# Altium footprint library RetroPie-CM3.PcbLib: 18 footprints (part 1 of 2)
Each footprint in its own frame and in the unit in brackets; x right, y up, seen from the top. Pads: shape width x height; smd on the part's side, far side on the other; paste and mask are expansions set on the pad; w line width, h text height; cw(c..) or ccw(c..) is an arc to the next point about the centre after c.
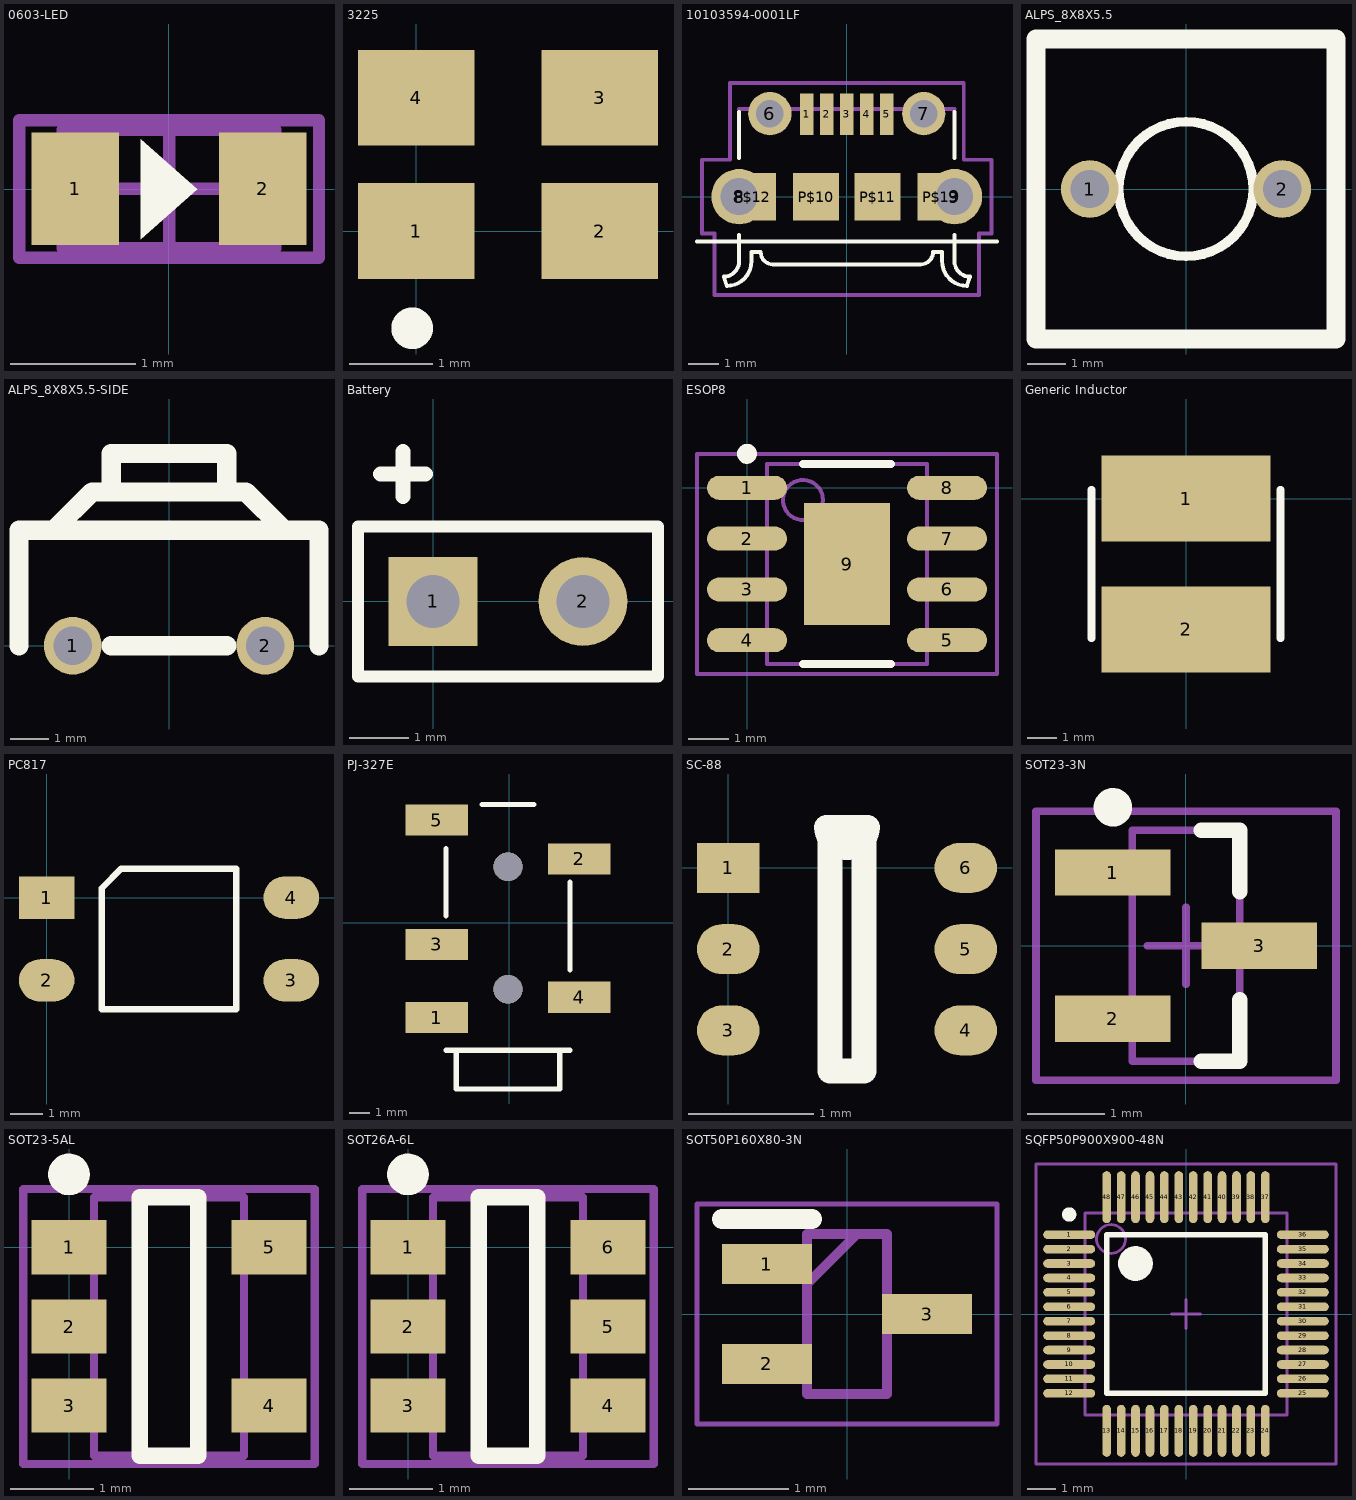
[diagram p0: the footprints below, top view; thin cyan lines are the x and y axes]

## 0603-LED [mm] "LED Body 1.6x0.8mm, IPC High Density"
height 0.9
pads (2):
  rect 0.7x0.9 smd: 1(-0.75,0) 2(0.75,0)
Top Overlay:
  region: -0.225,0.4 0.225,0 -0.225,-0.4
Mechanical 13:
  lines w0.1: -0.85,-0.475 -0.85,0.475 0.85,0.475 0.85,-0.475 -0.85,-0.475
Mechanical 15:
  lines w0.1: -0.475,0 0.475,0 ; 0,-0.475 0,0.475 ; -1.2,-0.55 -1.2,0.55 1.2,0.55 1.2,-0.55 -1.2,-0.55
3D body: height 0.9, standoff 0, extent -0.85,-0.475 0.85,0.475

## 3225 [mm] "Quartz Crystal, SM; Body 3.4 x 2.7 mm (LxW max)"
height 1
pads (4):
  rect 1.4x1.15 smd: 1(0,0) 2(2.2,0) 3(2.2,1.6) 4(0,1.6)
Top Overlay:
  circle w0.25: c-0.05,-1.167 r0.125

## 10103594-0001LF [mm] "Amphenol FCI Right Angle SMT Type B Version 2.0 Micro USB Connector Socket, 100 V ac, 1.8A"
pads (13):
  rect 0.45x1.35 smd: 1(-1.3,2.675) 2(-0.65,2.675) 3(0,2.675) 4(0.65,2.675) 5(1.3,2.675)
  round 1.408 hole 0.9: 6(-2.5,2.7) 7(2.5,2.7)
  round 1.8 hole 1.2: 8(-3.5,0) 9(3.5,0)
  rect 1.5x1.55 smd: P$10(-1,0) P$11(1,0) P$12(-3.05,0) P$13(3.05,0)
Top Overlay:
  lines w0.127: -4.869,-1.45 4.881,-1.45 ; -3.5,-2.15 -3.5,-2.1 ; -3.5,-1.25 -3.5,-2.1 ; -3.5,1.25 -3.5,2.75 ; 2.2,-2.2 2.4,-2.2 ccw(c2.4,-1.8) 2.8,-1.8 3.1,-1.8 3.1,-2.1 ccw(c3.9,-2.1) 3.9,-2.9 4,-2.6 cw(c4,-2.1) 3.5,-2.1 ; 2.3,-2.2 -2.4,-2.2 cw(c-2.4,-1.8) -2.8,-1.8 -3.1,-1.8 -3.1,-2.1 cw(c-3.9,-2.1) -3.9,-2.9 -4,-2.6 ccw(c-4,-2.1) -3.5,-2.1 ; 3.5,1.25 3.5,2.75 ; 3.5,-2.1 3.5,-1.25 3.5,-2.15 3.5,-2.1
Mechanical 1:
  lines w0.127: -3.5,2.85 3.5,2.85 ; -2.5,3.7 3.8,3.7 3.8,1.2 4.7,1.2 4.7,-1.2 4.3,-1.2 4.3,-3.2 -4.3,-3.2 -4.3,-1.2 -4.7,-1.2 -4.7,1.2 -3.8,1.2 -3.8,3.7 -1.8,3.7

## ALPS_8X8X5.5 [mm]
pads (2):
  round 1.5 hole 1: 1(-2.5,0) 2(2.5,0)
Top Overlay:
  circle w0.254: c0,0 r1.75
  lines w0.5: -3.9,-3.9 3.9,-3.9 3.9,3.9 -3.9,3.9 -3.9,-3.9

## ALPS_8X8X5.5-SIDE [mm]
pads (2):
  round 1.5 hole 1: 1(-2.5,0) 2(2.5,0)
Top Overlay:
  lines w0.5: -3.9,0 -3.9,3 3.9,3 3.9,0 ; -1.5,0 1.5,0 ; -1.5,4 -1.5,5 1.5,5 1.5,4 ; 3,3 2,4 ; -3,3 -2,4 2,4 ; -3,3 -3,3 ; 2,4 2,4

## Battery [mm] "Footprint for soldering battery to"
pads (2):
  rect 1.5x1.5 hole 0.9: 1(0,0)
  round 1.5 hole 0.9: 2(2.54,0)
Top Overlay:
  lines w0.2: -1.27,-1.27 3.81,-1.27 3.81,1.27 -1.27,1.27 -1.27,-1.27
  lines w0.254: -0.889,2.159 -0.127,2.159 ; -0.508,1.778 -0.508,2.54 -0.508,1.778

## ESOP8 [mm] "ESOP8 for IP5306 PMIC"
pads (9):
  oval 2x0.6 smd: 1(0,0) 2(0,-1.27) 3(0,-2.54) 4(0,-3.81) 5(5,-3.81) 6(5,-2.54) 7(5,-1.27) 8(5,0)
  rect 2.15x3.05 smd: 9(2.5,-1.905)
Top Overlay:
  circle w0.25: c0,0.85 r0.125
  lines w0.2: 1.4,-4.405 3.6,-4.405 ; 1.4,0.595 3.6,0.595
Mechanical 13:
  circle w0.1: c1.4,-0.305 r0.5
  lines w0.1: 0.5,-4.405 0.5,0.595 4.5,0.595 4.5,-4.405 0.5,-4.405
Mechanical 15:
  lines w0.1: 2,-1.905 3,-1.905 ; 2.5,-2.405 2.5,-1.405 ; -1.25,-4.655 -1.25,0.845 6.25,0.845 6.25,-4.655 -1.25,-4.655
3D body: height 1.55, standoff 0, extent 0.5,-4.405 4.5,0.595

## Generic Inductor [mm] "Footprint for generic inductor"
pads (2):
  rect 5.7x2.9 smd: 1(0,0) 2(0,-4.4)
Top Overlay:
  lines w0.254: -3.181,-4.7 -3.181,0.3 ; 3.181,-4.7 3.181,0.3

## PC817 [mm]
pads (4):
  rect 1.7x1.3 smd: 1(0,0)
  oval 1.7x1.3 smd: 2(0,-2.54) 3(7.5,-2.54) 4(7.5,0)
Top Overlay:
  lines w0.2: 1.685,-3.429 5.815,-3.429 5.815,0.889 2.286,0.889 1.685,0.288 1.685,-3.429

## PJ-327E [mil] "TRRS 3.5mm Socket"
pads (5):
  rect 120x60 smd: 1(-139.76,-183.07) 2(135.83,123.94) 3(-139.76,-41.34) 4(135.83,-143.7) 5(-139.76,198.82)
via -1.97,108.27 diameter 55.12 hole 55.12
via -1.97,-127.95 diameter 55.12 hole 55.12
Top Overlay:
  lines w10: -121.97,-246.06 118.03,-246.06 ; -121.97,13.94 -121.97,143.94 ; -101.97,-246.06 -101.97,-321.06 98.03,-321.06 98.03,-246.06 ; -51.97,228.94 48.03,228.94 ; 118.03,-91.06 118.03,78.94

## SC-88 [mm]
pads (6):
  rect 0.5x0.4 smd: 1(0,0)
  oval 0.5x0.4 smd: 2(0,-0.65) 3(0,-1.3) 4(1.9,-1.3) 5(1.9,-0.65) 6(1.9,0)
Top Overlay:
  lines w0.2: 0.787,0.325 ccw(c0.95,0.325) 1.112,0.325 0.815,0.325 0.815,-1.625 1.085,-1.625 1.085,0.325 0.787,0.325

## SOT23-3N [mm] "SOT23, 3-Leads, Body 2.9x1.3mm, Pitch 0.95mm, Lead Span 2.5mm, IPC Medium Density"
height 1.1
pads (3):
  rect 1.5x0.6 smd: 1(-0.95,0.95) 2(-0.95,-0.95) 3(0.95,0)
Top Overlay:
  circle w0.25: c-0.95,1.8 r0.125
  lines w0.2: 0.2,-1.5 0.7,-1.5 0.7,-0.7 ; 0.2,1.5 0.7,1.5 0.7,0.7
Mechanical 13:
  lines w0.1: -0.7,-1.5 -0.7,1.5 0.7,1.5 0.7,-1.5 -0.7,-1.5
Mechanical 15:
  lines w0.1: -0.5,0 0.5,0 ; 0,-0.5 0,0.5 ; -1.95,-1.75 -1.95,1.75 1.95,1.75 1.95,-1.75 -1.95,-1.75
3D body: height 1.1, standoff 0, extent -0.7,-1.5 0.7,1.5

## SOT23-5AL [mm] "SOT23, 5-Leads, Body 2.9x1.6mm, Pitch 0.95mm, Lead Span 2.8mm, IPC High Densit"
pads (5):
  rect 0.9x0.65 smd: 1(0,0) 2(0,-0.95) 3(0,-1.9) 4(2.4,-1.9) 5(2.4,0)
Top Overlay:
  circle w0.25: c0,0.875 r0.125
  lines w0.2: 0.85,-2.5 0.85,0.6 1.55,0.6 1.55,-2.5 0.85,-2.5
Mechanical 13:
  lines w0.1: 0.3,-2.5 2.1,-2.5 2.1,0.6 0.3,0.6 0.3,-2.5
Mechanical 15:
  lines w0.1: -0.55,-2.6 2.95,-2.6 2.95,0.7 -0.55,0.7 -0.55,-2.6
3D body: height 1.19, standoff 0, extent 0.3,-2.5 2.1,0.6

## SOT26A-6L [mm] "SOT23, 6-Leads, Body 2.9x1.7mm, Pitch 0.95mm, Lead Span 2.8mm, IPC High Density"
height 1.45
pads (6):
  rect 0.9x0.65 smd: 1(0,0) 2(0,-0.95) 3(0,-1.9) 4(2.4,-1.9) 5(2.4,-0.95) 6(2.4,0)
Top Overlay:
  circle w0.25: c0,0.875 r0.125
  lines w0.2: 0.85,-2.5 0.85,0.6 1.55,0.6 1.55,-2.5 0.85,-2.5
Mechanical 13:
  lines w0.1: 0.3,-2.5 2.1,-2.5 2.1,0.6 0.3,0.6 0.3,-2.5
Mechanical 15:
  lines w0.1: -0.55,-2.6 2.95,-2.6 2.95,0.7 -0.55,0.7 -0.55,-2.6
3D body: height 1.45, standoff 0, extent 0.3,-2.5 2.1,0.6

## SOT50P160X80-3N [mm]
pads (3):
  rect 0.9x0.4 smd: 1(-0.8,0.5) 2(-0.8,-0.5) 3(0.8,0)
Top Overlay:
  lines w0.2: -1.25,0.95 -0.35,0.95
Mechanical 15:
  lines w0.1: -0.4,0.3 0.1,0.8 ; -0.4,-0.8 0.4,-0.8 0.4,0.8 -0.4,0.8 -0.4,-0.8
Mechanical 20:
  lines w0.05: -1.5,-1.1 1.5,-1.1 1.5,1.1 -1.5,1.1 -1.5,-1.1

## SQFP50P900X900-48N [mm] "Shrink QFP, 48-Leads, Body 7x7mm, Pitch 0.5mm, IPC Medium Density"
height 1.7
pads (48):
  oval 1.8x0.3 smd: 1(-4.05,2.75) 2(-4.05,2.25) 3(-4.05,1.75) 4(-4.05,1.25) 5(-4.05,0.75) 6(-4.05,0.25) 7(-4.05,-0.25) 8(-4.05,-0.75) 9(-4.05,-1.25) 10(-4.05,-1.75) 11(-4.05,-2.25) 12(-4.05,-2.75) 25(4.05,-2.75) 26(4.05,-2.25) 27(4.05,-1.75) 28(4.05,-1.25) 29(4.05,-0.75) 30(4.05,-0.25) 31(4.05,0.25) 32(4.05,0.75) 33(4.05,1.25) 34(4.05,1.75) 35(4.05,2.25) 36(4.05,2.75)
  oval 0.3x1.8 smd: 13(-2.75,-4.05) 14(-2.25,-4.05) 15(-1.75,-4.05) 16(-1.25,-4.05) 17(-0.75,-4.05) 18(-0.25,-4.05) 19(0.25,-4.05) 20(0.75,-4.05) 21(1.25,-4.05) 22(1.75,-4.05) 23(2.25,-4.05) 24(2.75,-4.05) 37(2.75,4.05) 38(2.25,4.05) 39(1.75,4.05) 40(1.25,4.05) 41(0.75,4.05) 42(0.25,4.05) 43(-0.25,4.05) 44(-0.75,4.05) 45(-1.25,4.05) 46(-1.75,4.05) 47(-2.25,4.05) 48(-2.75,4.05)
Top Overlay:
  circle w0.25: c-4.05,3.45 r0.125
  circle w0.6: c-1.75,1.75 r0.3
  lines w0.2: -2.75,-2.75 -2.75,2.75 2.75,2.75 2.75,-2.75 -2.75,-2.75
Mechanical 13:
  circle w0.1: c-2.6,2.6 r0.5
  lines w0.1: -3.5,-3.5 -3.5,3.5 3.5,3.5 3.5,-3.5 -3.5,-3.5
Mechanical 15:
  lines w0.1: -0.5,0 0.5,0 ; 0,-0.5 0,0.5 ; -5.2,-5.2 -5.2,5.2 5.2,5.2 5.2,-5.2 -5.2,-5.2
3D body: height 1.7, standoff 0, extent -3.5,-3.5 3.5,3.5